# Altium integrated library pedals-relays.IntLib: 5 symbols
Pins are listed as number, name and electrical type; pins without a type are passive.

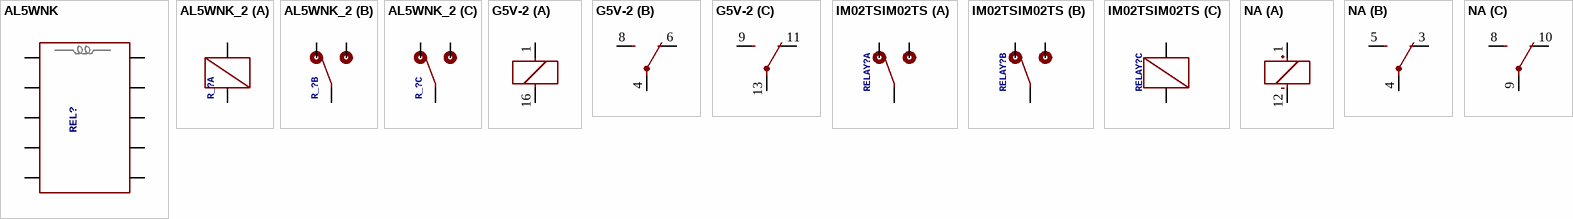
[diagram p0: symbols AL5WNK to NA]

## AL5WNK
designator REL?
footprint 10PIN
pins: P$1, P$2, P$3, P$4, P$5, P$6, P$7, P$8, P$9, P$10

## AL5WNK_2
designator R_?
footprint 10PIN
part A pins: P$1 +, P$10 -
part B pins: P$2 A, P$3 B, P$4 C
part C pins: P$7 C, P$8 B, P$9 A

## G5V-2
designator K?, comment OMRON PCB Relay   Source: http://www.omron.com/ecb/products/pdf/en-g5v2.pdf  (value not drawn)
MPN: G5V-2 5DC; OC_FARNELL: 9949488; OC_NEWARK: 78K5703
footprint G5V-2
part A pins: 1, 16 2
part B pins: 4 P, 6 O, 8 S
part C pins: 9 S, 11 O, 13 P

## IM02TSIM02TS
designator RELAY?
footprint 8-PIN
part A pins: 3 A, 4 B, 5 C
part B pins: 8 C, 9 B, 10 A
part C pins: 1 +, 12 -

## NA
designator K?, comment RELAY  (value not drawn)
OC_FARNELL: unknown; OC_NEWARK: unknown
footprint NA
part A pins: 1 +, 12 -
part B pins: 3 O, 4 P, 5 S
part C pins: 8 S, 9 P, 10 O